# EAGLE library part TPS54560B (library dc-dc)
Switching Voltage Regulators 4.5V to 60V Input, 5A, Step-Down DC-DC Converter with Eco-mode™ 8-SO PowerPAD -40 to 125 Datasheet <https://www.ti.com/lit/ds/symlink/tps54560b.pdf?ts=1655463669009>
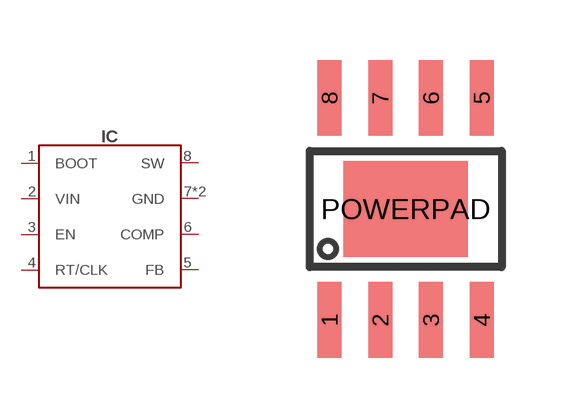
[diagram p19: symbol with the pads of SOIC8-POWERPAD; footprint SOIC8-POWERPAD]

Designator prefix IC

## TPS54560B (LCSC#: C1355654; MANF: Texas Instruments; MANF#: TPS54560BQDDARQ1)  [SOIC8-POWERPAD]
1  BOOT
2  VIN
3  EN
4  RT/CLK
5  FB
6  COMP
7  GND
8  SW
POWERPAD  GND

## Footprint SOIC8-POWERPAD (pad centres in mm)
https://datasheet.lcsc.com/szlcsc/1811060506_Texas-Instruments-LM5017MRX-NOPB_C34355.pdf
smd 0.6 x 1.9: 1 -1.905,-2.78; 2 -0.635,-2.78; 3 0.635,-2.78; 4 1.905,-2.78; 5 1.905,2.78; 6 0.635,2.78; 7 -0.635,2.78; 8 -1.905,2.78
smd 3.1 x 2.4: POWERPAD 0,0